# EAGLE library part DS2482-100 (library SparkFun-IC-Conversion)
Single-Channel I²C to 1-Wire Master The DS2482-100 is an I²C-to-1-Wire® bridge device that interfaces directly to standard (100kHz max) or fast (400kHz max) I²C masters to perform bidirectional protocol conversion between the I²C master and any downstream 1-Wire slave devices.
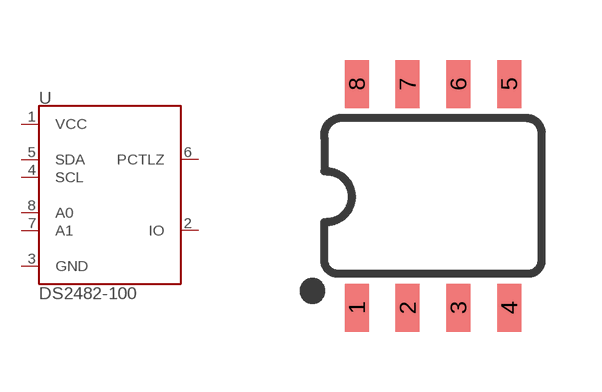
[diagram p15: symbol with the pads of SO08; footprint SO08]

Designator prefix U

## DS2482-100  [SO08]
1  VCC  pwr
2  IO
3  GND  pwr
4  SCL
5  SDA
6  PCTLZ
7  A1
8  A0

## Footprint SO08 (pad centres in mm)
SOIC, 0.15 inch width
smd 0.6 x 1.2: 1 -1.905,-2.8; 2 -0.635,-2.8; 3 0.635,-2.8; 4 1.905,-2.8; 5 1.905,2.8; 6 0.635,2.8; 7 -0.635,2.8; 8 -1.905,2.8